# Altium schematic symbol library 35V 220uF cap.SchLib: 1 symbol
Pins are listed as number, name and electrical type; pins without a type are passive.

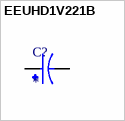
[diagram p0: symbol EEUHD1V221B]

## EEUHD1V221B
designator C?
Cap Aluminum 220uF 35V 20% (8 X 11.5mm) Radial 5mm 270mA 1000 hr 105C Ammo Pack; MP: EEU-HD1V221B; MF: Panasonic; Package: RADIAL-2 Panasonic; Availability: In Stock; Value: *; SnapEDA_Link: https://www.snapeda.com/parts/EEU-HD1V221B/Panasonic/view-part/?ref=snap; Price: None; Check_prices: https://www.snapeda.com/parts/EEU-HD1V221B/Panasonic/view-part/?ref=eda; Purchase-URL: https://pricing.snapeda.com/search/part/EEU-HD1V221B/?ref=eda
footprint CAPPRD500W60D800H1150
pins: N, P